# EAGLE library part IP4220CZ6 (library WarthogRobotics-IC-Special_Function)
ESD PROTECTION
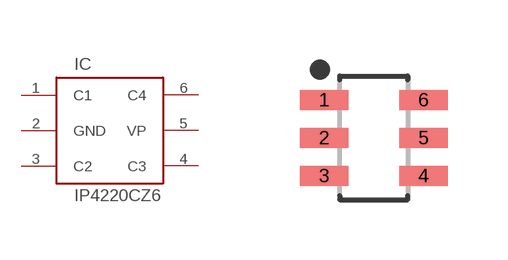
[diagram p1: symbol with the pads of TSOP6(SOT457)(N); footprint TSOP6(SOT457)(N)]

Designator prefix IC

## IP4220CZ6  [TSOP6(SOT457)(N)]
1  C1
2  GND
3  C2
4  C3
5  VP
6  C4

## Footprint TSOP6(SOT457)(N) (pad centres in mm)
6-SOP, 0.95 mm pitch, 2.75 mm span, 2.90 X 1.50 X 1.10 mm body 6-pin SOP package with 0.95 mm pitch, 2.75 mm span with body size 2.90 X 1.50 X 1.10 mm
smd 1.224 x 0.497: 1 -1.244,0.95; 2 -1.244,0; 3 -1.244,-0.95; 4 1.244,-0.95; 5 1.244,0; 6 1.244,0.95